# Altium footprint library MLACH_obsolete.PCBLIB: 154 footprints (part 5 of 10)
Each footprint in its own frame and in the unit in brackets; x right, y up, seen from the top. Pads: shape width x height; smd on the part's side, far side on the other; paste and mask are expansions set on the pad; w line width, h text height; cw(c..) or ccw(c..) is an arc to the next point about the centre after c.
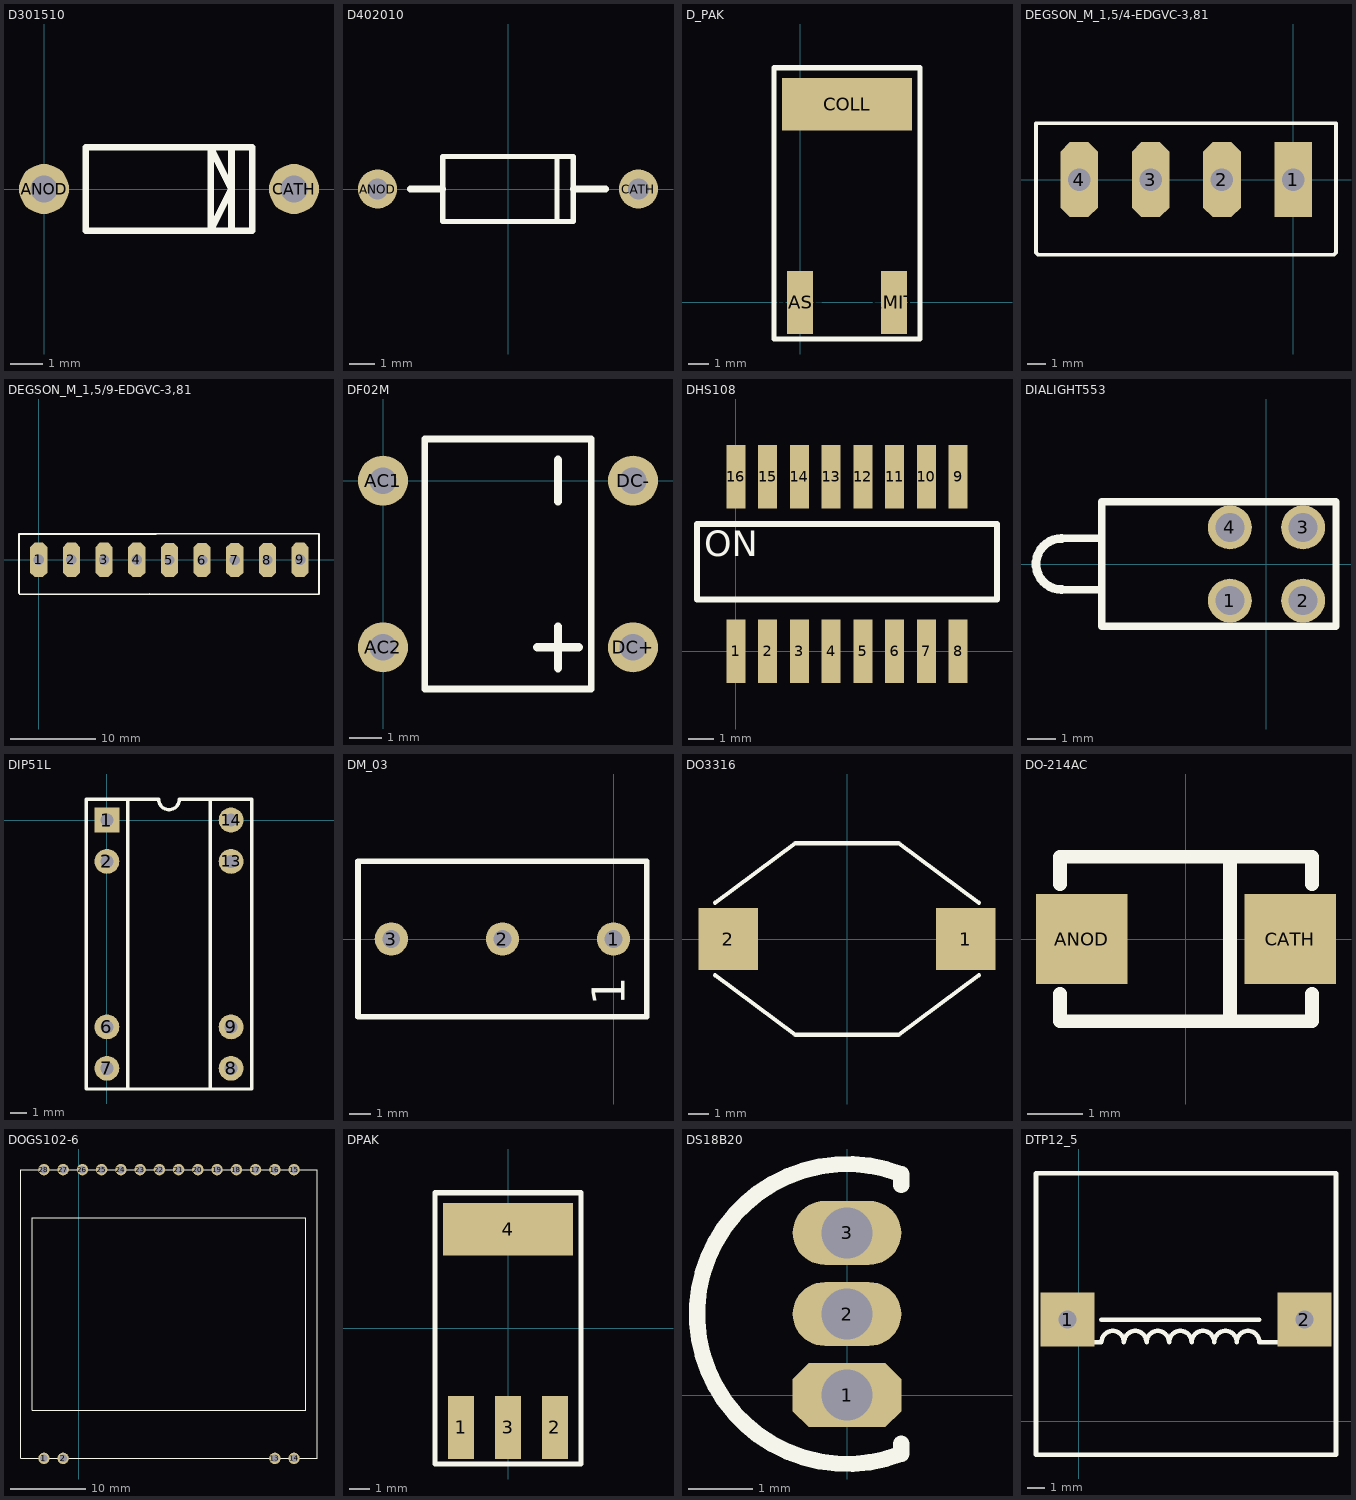
[diagram p4: the footprints below, top view; thin cyan lines are the x and y axes]

## D301510 [mil]
pads (2):
  round 60 hole 32: ANOD(0,0) CATH(300,0)
TopOverlay:
  lines w8: 225,-50 225,50 ; 50,-50 50,50 250,50 250,-50 50,-50 ; 200,-50 225,0 200,50 200,-50

## D402010 [mil]
pads (2):
  round 60 hole 32: ANOD(-200,0) CATH(200,0)
TopOverlay:
  lines w8: 75,-50 75,50 ; -100,-50 100,-50 100,50 -100,50 -100,-50
  lines w10: -150,0 -100,0 ; 100,0 150,0

## D_PAK [mil]
pads (3):
  rect 50x120 smd: BASE(0,0) EMIT(180,0)
  rect 250x100 smd: COLL(90,380)
TopOverlay:
  lines w10: -50,-70 230,-70 230,450 -50,450 -50,-70

## DEGSON_M_1,5/4-EDGVC-3,81 [mm]
height 7
pads (4):
  rect 2x4 hole 1.2 paste+1: 1(0,0)
  oct 2x4 hole 1.2 paste+1: 2(-3.81,0) 3(-7.62,0) 4(-11.43,0)
TopOverlay:
  lines w0.2: -13.73,-3.9 -13.73,3 2.27,3 2.27,-3.9 2.17,-4 -13.63,-4 -13.73,-3.9

## DEGSON_M_1,5/9-EDGVC-3,81 [mm]
height 18
pads (9):
  oct 2x4 hole 1.2 paste+1: 1(0,0) 2(3.81,0) 3(7.62,0) 4(11.43,0) 5(15.25,-0.025) 6(19.06,-0.025) 7(22.87,-0.025) 8(26.68,-0.025) 9(30.49,0)
TopOverlay:
  lines w0.2: 12.94,-3.975 32.69,-4 ; 13.065,3.025 32.69,3 ; 13.6,-4 -2.2,-4 -2.3,-3.9 -2.3,3 13.7,3 ; 32.69,-3.975 32.69,2.925

## DF02M [mil]
pads (4):
  round 60 hole 32: AC1(0,0) AC2(0,-200) DC+(300,-200) DC-(300,0)
TopOverlay:
  lines w8: 50,-250 50,50 250,50 250,-250 50,-250
  lines w10: 185,-200 235,-200 ; 210,-225 210,-175 ; 210,-25 210,25

## DHS108 [mil]
pads (16):
  rect 30x100 smd: 1(0,0) 2(50,0) 3(100,0) 4(150,0) 5(200,0) 6(250,0) 7(300,0) 8(350,0) 9(350,275) 10(300,275) 11(250,275) 12(200,275) 13(150,275) 14(100,275) 15(50,275) 16(0,275)
TopOverlay:
  lines w10: -61.22,81.5 411.22,81.5 411.22,200.59 -61.22,200.59 -61.22,81.5
  text "ON" at -50,150 h40

## DIALIGHT553 [mil]
pads (4):
  round 60 hole 40: 1(-50,-50) 2(50,-50) 3(50,50) 4(-50,50)
TopOverlay:
  lines w10: -280,-35 -225,-35 ; -280,35 -225,35 ; -225,-85 95,-85 95,85 -225,85 -225,-85
  lines w12: -280,-35 cw(c-280,0) -280,35

## DIP51L [mil]
pads (8):
  rect 60x60 hole 32: 1(0,0)
  round 60 hole 32: 2(0,-100) 6(0,-500) 7(0,-600) 8(300,-600) 9(300,-500) 13(300,-100) 14(300,0)
TopOverlay:
  lines w8: 50,-650 250,-650 ; 50,-650 50,50 ; 50,-650 -50,-650 -50,50 50,50 ; 50,50 125,50 ccw(c150,50) 175,50 250,50 ; 250,-650 250,50 ; 250,-650 350,-650 350,50 250,50

## DM_03 [mil]
pads (3):
  round 60 hole 32: 1(0,0) 2(-200,0) 3(-400,0)
TopOverlay:
  lines w10: -460,-140 -460,140 -200,140 60,140 60,-140 -460,-140
  text "1" at 20,-120 h60

## DO3316 [mil]
pads (2):
  rect 115x120 smd: 1(230,0) 2(-230,0)
TopOverlay:
  lines w8: -255,-70 -100,-185 100,-185 255,-70 ; -255,70 -100,185 100,185 255,70

## DO-214AC [mm]
pads (2):
  rect 1.67x1.65 smd: ANOD(-1.9,0) CATH(1.9,0)
TopOverlay:
  lines w0.254: -2.3,-1 -2.3,-1.5 2.3,-1.5 2.3,-1 ; -2.3,1 -2.3,1.5 2.3,1.5 2.3,1 ; 0.8,-1.5 0.8,1.5

## DOGS102-6 [mm]
pads (18):
  round 1.5 hole 1: 1(-4.572,5.588) 2(-2.032,5.588) 13(25.908,5.588) 14(28.448,5.588) 15(28.448,43.688) 16(25.908,43.688) 17(23.368,43.688) 18(20.828,43.688) 19(18.288,43.688) 20(15.748,43.688) 21(13.208,43.688) 22(10.668,43.688) 23(8.128,43.688) 24(5.588,43.688) 25(3.048,43.688) 26(0.508,43.688) 27(-2.032,43.688) 28(-4.572,43.688)
TopOverlay:
  lines w0.127: -7.62,5.588 -7.62,43.688 31.496,43.688 31.496,5.588 -7.62,5.588 ; -6.096,11.938 -6.096,37.338 29.972,37.338 29.972,11.938 -6.096,11.938

## DPAK [mil]
pads (4):
  rect 50x120 smd: 1(-90,-190) 2(90,-190) 3(0,-190)
  rect 250x100 smd: 4(0,190)
TopOverlay:
  lines w10: -140,-260 140,-260 140,260 -140,260 -140,-260

## DS18B20 [mm]
pads (3):
  oct 1.7x1 hole 0.8: 1(0,0)
  oval 1.7x1 hole 0.8: 2(0,1.27) 3(0,2.54)
TopOverlay:
  lines w0.254: 0.85,-0.91 0.85,-0.76 ; 0.85,3.29 0.85,3.45 ; 0.853,-0.917 cw(c0,1.27) 0.853,3.457

## DTP12_5 [mil]
pads (2):
  rect 120x120 hole 40: 1(-25,225) 2(500,225)
TopOverlay:
  lines w10: 0,175 50,175 cw(c75,175) 100,175 cw(c125,175) 150,175 cw(c175,175) 200,175 cw(c225,175) 250,175 cw(c275,175) 300,175 cw(c325,175) 350,175 cw(c375,175) 400,175 450,175 ; 50,225 400,225 ; -95,-75 -95,550 570,550 570,-75 -95,-75